# Altium integrated library HexaPod - Diode.IntLib: 2 symbols
Pins are listed as number, name and electrical type; pins without a type are passive.

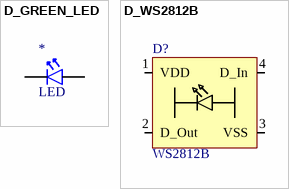
[diagram p0: symbols D_GREEN_LED to D_WS2812B]

## D_GREEN_LED
designator *, comment LED
Standard-LEDs - SMD; Part Number: D_GREEN_LED; Manufacturer: Kingbright; Manufacturer Part Number: APT1608ZGC-AMT; Type: LED; Datasheet: https://www.mouser.de/datasheet/2/216/APT1608ZGC_AMT-3103429.pdf; Mouser: https://www.mouser.de/ProductDetail/Kingbright/APT1608ZGC-AMT?qs=icabnvfcbsHp7S%2FzonKPdQ%3D%3D
footprint LED_0603
pins: 1 12, 2 13

## D_WS2812B
designator D?, comment WS2812B
SMD LED - RGB; Part Number: D_WS2812B; Manufacturer: SparkFun; Manufacturer Part Number: COM-16346; Type: LED; Datasheet: https://www.mouser.de/datasheet/2/813/WS2812B-2487641.pdf; Mouser: https://www.mouser.de/ProductDetail/SparkFun/COM-16346?qs=OlC7AqGiEDnspdV1Dchx7w%3D%3D
footprint WS2812B
pins: 1 VDD, 2 D_Out, 3 VSS, 4 D_In